# EAGLE library part R-543.3PA (library R-543.3PA)
2,3,4,5 Amp SIP12 Vertical & Horizontal Single Output
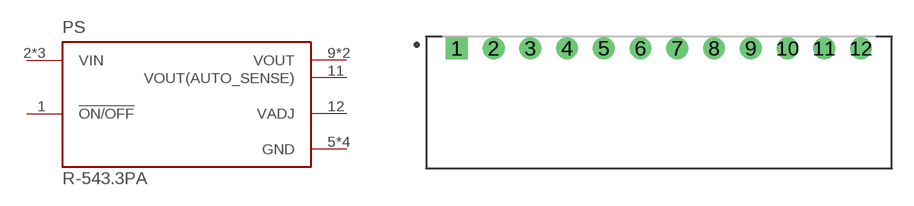
[diagram p0: symbol with the pads of CONV_R-543.3PA; footprint CONV_R-543.3PA]

Designator prefix PS

## R-543.3PA (Description: 4A DC/DC-Converter 'INNOLINE' SIP12 reg; Digi-Key_Part_Number: 945-1599-5-ND; DigiKey-Purchase-URL: https://snapeda.com/shop?store=DigiKey&id=3630570; MF: Recom Power; MP: R-543.3PA; Package: SIP-12 Recom Power)  [CONV_R-543.3PA]
1  !ON/OFF  in
2  VIN  in
3  VIN  in
4  VIN  in
5  GND  pwr
6  GND  pwr
7  GND  pwr
8  GND  pwr
9  VOUT  out
10  VOUT  out
11  VOUT(AUTO_SENSE)  out
12  VADJ  pas

## Footprint CONV_R-543.3PA (pad centres in mm)
drill 1 square: 1 -13.97,3.75
drill 1: 2 -11.43,3.75; 3 -8.89,3.75; 4 -6.35,3.75; 5 -3.81,3.75; 6 -1.27,3.75; 7 1.27,3.75; 8 3.81,3.75; 9 6.35,3.75; 10 8.89,3.75; 11 11.43,3.75; 12 13.97,3.75